# Altium integrated library TI Logic Flip-Flop.IntLib: 904 symbols (part 15 of 21)
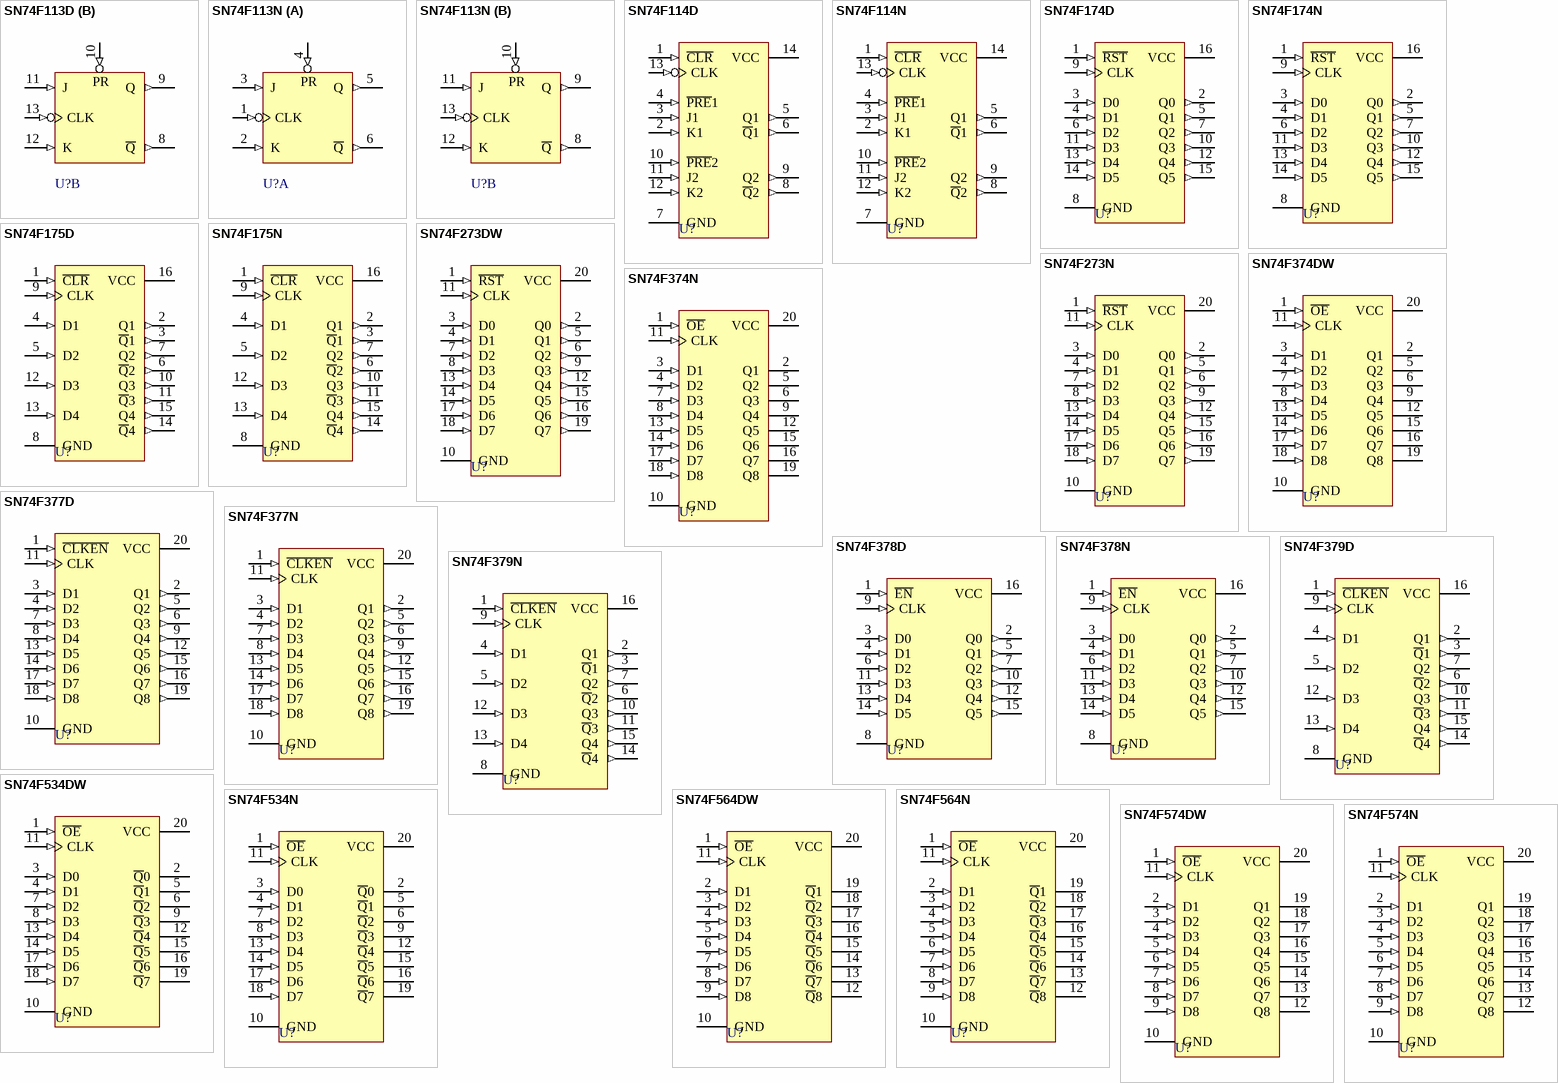
[diagram p49: symbols SN74F113D to SN74F574N]

## SN74F114D
designator U?
Dual J-K Negative-Edge-Triggered Flip-Flop with Preset, Common Clear and Common Clock; Published: 8-Jun-2000; LatestRevisionDate: 13-Apr-2006; LatestRevisionNote: IPC-7351 Footprint Added.; DatasheetVersion: Jan-1989; PackageVersion: Jan-1998; PackageReference: D014; Publisher: Altium Limited; PackageDescription: 14-Pin Small Outline Integrated Circuit 1.27 mm Pitch; Code_IPC: SOIC127P600-14; ComponentLink1Description: Manufacturer Link; ComponentLink1URL: http://www.ti.com/
footprint D014_N (SOIC, 14-Leads, Body 8.7x3.9mm, Pitch 1.27mm, IPC Medium Density)
footprint D014_L (SOIC, 14-Leads, Body 8.7x3.9mm, Pitch 1.27mm, IPC High Density)
footprint D014_M (SOIC, 14-Leads, Body 8.7x3.9mm, Pitch 1.27mm, IPC Low Density)
3D model D014 (14-Pin Small Outline Integrated Circuit 1.27 mm Pitch)
signal-integrity model SN74F114D
pins: 1 ~{CLR} (in), 2 K1 (in), 3 J1 (in), 4 ~{PRE}1 (in), 5 Q1 (out), 6 ~{Q}1 (out), 7 GND (power), 8 ~{Q}2 (out), 9 Q2 (out), 10 ~{PRE}2 (in), 11 J2 (in), 12 K2 (in), 13 CLK (in), 14 VCC (power)

## SN74F114N
designator U?
Dual J-K Negative-Edge-Triggered Flip-Flop with Preset, Common Clear and Common Clock; Published: 8-Jun-2000; LatestRevisionDate: 04-Mar-2005; LatestRevisionNote: Stylized 3D Model Added.; DatasheetVersion: Jan-1989; PackageVersion: Oct-1995; PackageReference: N014D; Publisher: Altium Limited; PackageDescription: DIP; 14 Leads; Row Spacing 7.62 mm; Pitch 2.54 mm; ComponentLink1Description: Manufacturer Link; ComponentLink1URL: http://www.ti.com/
footprint N014D (DIP; 14 Leads; Row Spacing 7.62 mm; Pitch 2.54 mm)
3D model N014 (DIP; 14 Leads; Row Spacing 7.62 mm; Pitch 2.54 mm)
signal-integrity model SN74F114N
pins: 1 ~{CLR} (in), 2 K1 (in), 3 J1 (in), 4 ~{PRE}1 (in), 5 Q1 (out), 6 ~{Q}1 (out), 7 GND (power), 8 ~{Q}2 (out), 9 Q2 (out), 10 ~{PRE}2 (in), 11 J2 (in), 12 K2 (in), 13 CLK (in), 14 VCC (power)

## SN74F174D
designator U?
Hex D-Type Flip-Flop with Clear; Published: 8-Jun-2000; LatestRevisionDate: 13-Apr-2006; LatestRevisionNote: IPC-7351 Footprint Added.; DatasheetVersion: Jan-1989; PackageVersion: Jan-1998; PackageReference: D016; Publisher: Altium Limited; PackageDescription: 16-Pin Small Outline Integrated Circuit 1.27 mm Pitch; Code_IPC: SOIC127P600-16; ComponentLink1Description: Manufacturer Link; ComponentLink1URL: http://www.ti.com/
footprint D016_N (SOIC, 16-Leads, Body 9.9x3.9mm, Pitch 1.27mm, IPC Medium Density)
footprint D016_L (SOIC, 16-Leads, Body 9.9x3.9mm, Pitch 1.27mm, IPC High Density)
footprint D016_M (SOIC, 16-Leads, Body 9.9x3.9mm, Pitch 1.27mm, IPC Low Density)
3D model D016 (16-Pin Small Outline Integrated Circuit 1.27 mm Pitch)
simulation model SN74F174 (SIMCODE)
signal-integrity model SN74F174D
pins: 1 ~{RST} (in), 2 Q0 (out), 3 D0 (in), 4 D1 (in), 5 Q1 (out), 6 D2 (in), 7 Q2 (out), 8 GND (power), 9 CLK (in), 10 Q3 (out), 11 D3 (in), 12 Q4 (out), 13 D4 (in), 14 D5 (in), 15 Q5 (out), 16 VCC (power)

## SN74F174N
designator U?
Hex D-Type Flip-Flop with Clear; Published: 8-Jun-2000; LatestRevisionDate: 04-Mar-2005; LatestRevisionNote: Stylized 3D Model Added.; DatasheetVersion: Jan-1989; PackageVersion: Oct-1995; PackageReference: N016D; Publisher: Altium Limited; PackageDescription: DIP; 16 Leads; Row Spacing 7.62 mm; Pitch 2.54 mm; Code_JEDEC: MS-001-BB; ComponentLink1Description: Manufacturer Link; ComponentLink1URL: http://www.ti.com/
footprint N016D (DIP; 16 Leads; Row Spacing 7.62 mm; Pitch 2.54 mm)
3D model N016 (DIP; 16 Leads; Row Spacing 7.62 mm; Pitch 2.54 mm)
simulation model SN74F174 (SIMCODE)
signal-integrity model SN74F174N
pins: 1 ~{RST} (in), 2 Q0 (out), 3 D0 (in), 4 D1 (in), 5 Q1 (out), 6 D2 (in), 7 Q2 (out), 8 GND (power), 9 CLK (in), 10 Q3 (out), 11 D3 (in), 12 Q4 (out), 13 D4 (in), 14 D5 (in), 15 Q5 (out), 16 VCC (power)

## SN74F175D
designator U?
Quadruple D-Type Flip-Flop with Clear; Published: 8-Jun-2000; LatestRevisionDate: 13-Apr-2006; LatestRevisionNote: IPC-7351 Footprint Added.; DatasheetVersion: Oct-1993; PackageVersion: Jan-1998; PackageReference: D016; Publisher: Altium Limited; PackageDescription: 16-Pin Small Outline Integrated Circuit 1.27 mm Pitch; Code_IPC: SOIC127P600-16; ComponentLink1Description: Manufacturer Link; ComponentLink1URL: http://www.ti.com/; ComponentLink2Description: Datasheet; ComponentLink2URL: http://www-s.ti.com/sc/ds/sn74f175.pdf
footprint D016_N (SOIC, 16-Leads, Body 9.9x3.9mm, Pitch 1.27mm, IPC Medium Density)
footprint D016_L (SOIC, 16-Leads, Body 9.9x3.9mm, Pitch 1.27mm, IPC High Density)
footprint D016_M (SOIC, 16-Leads, Body 9.9x3.9mm, Pitch 1.27mm, IPC Low Density)
3D model D016 (16-Pin Small Outline Integrated Circuit 1.27 mm Pitch)
simulation model SN74F175 (SIMCODE)
signal-integrity model SN74F175D
pins: 1 ~{CLR} (in), 2 Q1 (out), 3 ~{Q}1 (out), 4 D1 (in), 5 D2 (in), 6 ~{Q}2 (out), 7 Q2 (out), 8 GND (power), 9 CLK (in), 10 Q3 (out), 11 ~{Q}3 (out), 12 D3 (in), 13 D4 (in), 14 ~{Q}4 (out), 15 Q4 (out), 16 VCC (power)

## SN74F175N
designator U?
Quadruple D-Type Flip-Flop with Clear; Published: 8-Jun-2000; LatestRevisionDate: 04-Mar-2005; LatestRevisionNote: Stylized 3D Model Added.; DatasheetVersion: Oct-1993; PackageVersion: Oct-1995; PackageReference: N016; Publisher: Altium Limited; PackageDescription: DIP; 16 Leads; Row Spacing 7.62 mm; Pitch 2.54 mm; Code_JEDEC: MS-001-BB; ComponentLink1Description: Manufacturer Link; ComponentLink1URL: http://www.ti.com/; ComponentLink2Description: Datasheet; ComponentLink2URL: http://www-s.ti.com/sc/ds/sn74f175.pdf
footprint N016 (DIP; 16 Leads; Row Spacing 7.62 mm; Pitch 2.54 mm)
3D model N016 (DIP; 16 Leads; Row Spacing 7.62 mm; Pitch 2.54 mm)
simulation model SN74F175 (SIMCODE)
signal-integrity model SN74F175N
pins: 1 ~{CLR} (in), 2 Q1 (out), 3 ~{Q}1 (out), 4 D1 (in), 5 D2 (in), 6 ~{Q}2 (out), 7 Q2 (out), 8 GND (power), 9 CLK (in), 10 Q3 (out), 11 ~{Q}3 (out), 12 D3 (in), 13 D4 (in), 14 ~{Q}4 (out), 15 Q4 (out), 16 VCC (power)

## SN74F273DW
designator U?
Octal D-Type Flip-Flop with Clear; Published: 8-Jun-2000; LatestRevisionDate: 13-Apr-2006; LatestRevisionNote: IPC-7351 Footprint Added.; DatasheetVersion: Jan-1989; PackageVersion: Mar-2000; PackageReference: DW020; Publisher: Altium Limited; PackageDescription: 20-Pin Plastic Small Outline Integrated Circuit 1.27 mm Pitch; Code_JEDEC: MS-013; Code_IPC: SOIC127P1030-20; ComponentLink1Description: Manufacturer Link; ComponentLink1URL: http://www.ti.com/
footprint DW020_N (SOIC, 20-Leads, Body 12.8x7.5mm, Pitch 1.27mm, IPC Medium Density)
footprint DW020_L (SOIC, 20-Leads, Body 12.8x7.5mm, Pitch 1.27mm, IPC High Density)
footprint DW020_M (SOIC, 20-Leads, Body 12.8x7.5mm, Pitch 1.27mm, IPC Low Density)
3D model DW020 (20-Pin Plastic Small Outline Integrated Circuit 1.27 mm Pitch)
simulation model SN74F273 (SIMCODE)
signal-integrity model SN74F273DW
pins: 1 ~{RST} (in), 2 Q0 (out), 3 D0 (in), 4 D1 (in), 5 Q1 (out), 6 Q2 (out), 7 D2 (in), 8 D3 (in), 9 Q3 (out), 10 GND (power), 11 CLK (in), 12 Q4 (out), 13 D4 (in), 14 D5 (in), 15 Q5 (out), 16 Q6 (out), 17 D6 (in), 18 D7 (in), 19 Q7 (out), 20 VCC (power)

## SN74F273N
designator U?
Octal D-Type Flip-Flop with Clear; Published: 8-Jun-2000; LatestRevisionDate: 04-Mar-2005; LatestRevisionNote: Stylized 3D Model Added.; DatasheetVersion: Jan-1989; PackageVersion: Oct-1995; PackageReference: N020D; Publisher: Altium Limited; PackageDescription: DIP; 20 Leads; Row Spacing 7.62 mm; Pitch 2.54 mm; ComponentLink1Description: Manufacturer Link; ComponentLink1URL: http://www.ti.com/
footprint N020D (DIP; 20 Leads; Row Spacing 7.62 mm; Pitch 2.54 mm)
3D model J020 (DIP; 20 Leads; Row Spacing 7.62 mm; Pitch 2.54 mm)
simulation model SN74F273 (SIMCODE)
signal-integrity model SN74F273N
pins: 1 ~{RST} (in), 2 Q0 (out), 3 D0 (in), 4 D1 (in), 5 Q1 (out), 6 Q2 (out), 7 D2 (in), 8 D3 (in), 9 Q3 (out), 10 GND (power), 11 CLK (in), 12 Q4 (out), 13 D4 (in), 14 D5 (in), 15 Q5 (out), 16 Q6 (out), 17 D6 (in), 18 D7 (in), 19 Q7 (out), 20 VCC (power)

## SN74F374DW
designator U?
Octal Edge-Triggered D-Type D-Type Flip-Flop with 3-State Outputs; Published: 8-Jun-2000; LatestRevisionDate: 13-Apr-2006; LatestRevisionNote: IPC-7351 Footprint Added.; DatasheetVersion: Oct-1993; PackageVersion: Mar-2000; PackageReference: DW020; Publisher: Altium Limited; PackageDescription: 20-Pin Plastic Small Outline Integrated Circuit 1.27 mm Pitch; Code_JEDEC: MS-013; Code_IPC: SOIC127P1030-20; ComponentLink1Description: Manufacturer Link; ComponentLink1URL: http://www.ti.com/; ComponentLink2Description: Datasheet; ComponentLink2URL: http://www-s.ti.com/sc/ds/sn74f374.pdf
footprint DW020_N (SOIC, 20-Leads, Body 12.8x7.5mm, Pitch 1.27mm, IPC Medium Density)
footprint DW020_L (SOIC, 20-Leads, Body 12.8x7.5mm, Pitch 1.27mm, IPC High Density)
footprint DW020_M (SOIC, 20-Leads, Body 12.8x7.5mm, Pitch 1.27mm, IPC Low Density)
3D model DW020 (20-Pin Plastic Small Outline Integrated Circuit 1.27 mm Pitch)
simulation model SN74F374 (SIMCODE)
signal-integrity model SN74F374DW
pins: 1 ~{OE} (in), 2 Q1 (hiz), 3 D1 (in), 4 D2 (in), 5 Q2 (hiz), 6 Q3 (hiz), 7 D3 (in), 8 D4 (in), 9 Q4 (hiz), 10 GND (power), 11 CLK (in), 12 Q5 (hiz), 13 D5 (in), 14 D6 (in), 15 Q6 (hiz), 16 Q7 (hiz), 17 D7 (in), 18 D8 (in), 19 Q8 (hiz), 20 VCC (power)

## SN74F374N
designator U?
Octal Edge-Triggered D-Type D-Type Flip-Flop with 3-State Outputs; Published: 8-Jun-2000; LatestRevisionDate: 04-Mar-2005; LatestRevisionNote: Stylized 3D Model Added.; DatasheetVersion: Oct-1993; PackageVersion: Oct-1995; PackageReference: N020; Publisher: Altium Limited; PackageDescription: DIP; 20 Leads; Row Spacing 7.62 mm; Pitch 2.54 mm; ComponentLink1Description: Manufacturer Link; ComponentLink1URL: http://www.ti.com/; ComponentLink2Description: Datasheet; ComponentLink2URL: http://www-s.ti.com/sc/ds/sn74f374.pdf
footprint N020 (DIP; 20 Leads; Row Spacing 7.62 mm; Pitch 2.54 mm)
3D model J020 (DIP; 20 Leads; Row Spacing 7.62 mm; Pitch 2.54 mm)
simulation model SN74F374 (SIMCODE)
signal-integrity model SN74F374N
pins: 1 ~{OE} (in), 2 Q1 (hiz), 3 D1 (in), 4 D2 (in), 5 Q2 (hiz), 6 Q3 (hiz), 7 D3 (in), 8 D4 (in), 9 Q4 (hiz), 10 GND (power), 11 CLK (in), 12 Q5 (hiz), 13 D5 (in), 14 D6 (in), 15 Q6 (hiz), 16 Q7 (hiz), 17 D7 (in), 18 D8 (in), 19 Q8 (hiz), 20 VCC (power)

## SN74F377D
designator U?
Octal D-Type Flip-Flop with Clock Enable; Published: 8-Jun-2000; LatestRevisionDate: 13-Apr-2006; LatestRevisionNote: IPC-7351 Footprint Added.; DatasheetVersion: Jan-1989; PackageVersion: Mar-2000; PackageReference: DW020; Publisher: Altium Limited; PackageDescription: 20-Pin Plastic Small Outline Integrated Circuit 1.27 mm Pitch; Code_JEDEC: MS-013; Code_IPC: SOIC127P1030-20; ComponentLink1Description: Manufacturer Link; ComponentLink1URL: http://www.ti.com/
footprint DW020_N (SOIC, 20-Leads, Body 12.8x7.5mm, Pitch 1.27mm, IPC Medium Density)
footprint DW020_L (SOIC, 20-Leads, Body 12.8x7.5mm, Pitch 1.27mm, IPC High Density)
footprint DW020_M (SOIC, 20-Leads, Body 12.8x7.5mm, Pitch 1.27mm, IPC Low Density)
3D model DW020 (20-Pin Plastic Small Outline Integrated Circuit 1.27 mm Pitch)
simulation model SN74F377 (SIMCODE)
signal-integrity model SN74F377D
pins: 1 ~{CLKEN} (in), 2 Q1 (out), 3 D1 (in), 4 D2 (in), 5 Q2 (out), 6 Q3 (out), 7 D3 (in), 8 D4 (in), 9 Q4 (out), 10 GND (power), 11 CLK (in), 12 Q5 (out), 13 D5 (in), 14 D6 (in), 15 Q6 (out), 16 Q7 (out), 17 D7 (in), 18 D8 (in), 19 Q8 (out), 20 VCC (power)

## SN74F377N
designator U?
Octal D-Type Flip-Flop with Clock Enable; Published: 8-Jun-2000; LatestRevisionDate: 04-Mar-2005; LatestRevisionNote: Stylized 3D Model Added.; DatasheetVersion: Jan-1989; PackageVersion: Oct-1995; PackageReference: N020D; Publisher: Altium Limited; PackageDescription: DIP; 20 Leads; Row Spacing 7.62 mm; Pitch 2.54 mm; ComponentLink1Description: Manufacturer Link; ComponentLink1URL: http://www.ti.com/
footprint N020D (DIP; 20 Leads; Row Spacing 7.62 mm; Pitch 2.54 mm)
3D model J020 (DIP; 20 Leads; Row Spacing 7.62 mm; Pitch 2.54 mm)
simulation model SN74F377 (SIMCODE)
signal-integrity model SN74F377N
pins: 1 ~{CLKEN} (in), 2 Q1 (out), 3 D1 (in), 4 D2 (in), 5 Q2 (out), 6 Q3 (out), 7 D3 (in), 8 D4 (in), 9 Q4 (out), 10 GND (power), 11 CLK (in), 12 Q5 (out), 13 D5 (in), 14 D6 (in), 15 Q6 (out), 16 Q7 (out), 17 D7 (in), 18 D8 (in), 19 Q8 (out), 20 VCC (power)

## SN74F378D
designator U?
Hex D-Type Flip-Flop with Clock Enable; ComponentAvailability: Obsolete; Published: 8-Jun-2000; LatestRevisionDate: 13-Apr-2006; LatestRevisionNote: IPC-7351 Footprint Added.; DatasheetVersion: Oct-1993; PackageVersion: Jan-1998; PackageReference: D016; Publisher: Altium Limited; PackageDescription: 16-Pin Small Outline Integrated Circuit 1.27 mm Pitch; Code_IPC: SOIC127P600-16; ComponentLink1Description: Manufacturer Link; ComponentLink1URL: http://www.ti.com/; ComponentLink2Description: Datasheet; ComponentLink2URL: http://www-s.ti.com/sc/ds/sn74f378.pdf
footprint D016_N (SOIC, 16-Leads, Body 9.9x3.9mm, Pitch 1.27mm, IPC Medium Density)
footprint D016_L (SOIC, 16-Leads, Body 9.9x3.9mm, Pitch 1.27mm, IPC High Density)
footprint D016_M (SOIC, 16-Leads, Body 9.9x3.9mm, Pitch 1.27mm, IPC Low Density)
3D model D016 (16-Pin Small Outline Integrated Circuit 1.27 mm Pitch)
simulation model SN74F378 (SIMCODE)
signal-integrity model SN74F378D
pins: 1 ~{EN} (in), 2 Q0 (out), 3 D0 (in), 4 D1 (in), 5 Q1 (out), 6 D2 (in), 7 Q2 (out), 8 GND (power), 9 CLK (in), 10 Q3 (out), 11 D3 (in), 12 Q4 (out), 13 D4 (in), 14 D5 (in), 15 Q5 (out), 16 VCC (power)

## SN74F378N
designator U?
Hex D-Type Flip-Flop with Clock Enable; ComponentAvailability: Obsolete; Published: 8-Jun-2000; LatestRevisionDate: 04-Mar-2005; LatestRevisionNote: Stylized 3D Model Added.; DatasheetVersion: Oct-1993; PackageVersion: Oct-1995; PackageReference: N016; Publisher: Altium Limited; PackageDescription: DIP; 16 Leads; Row Spacing 7.62 mm; Pitch 2.54 mm; Code_JEDEC: MS-001-BB; ComponentLink1Description: Manufacturer Link; ComponentLink1URL: http://www.ti.com/; ComponentLink2Description: Datasheet; ComponentLink2URL: http://www-s.ti.com/sc/ds/sn74f378.pdf
footprint N016 (DIP; 16 Leads; Row Spacing 7.62 mm; Pitch 2.54 mm)
3D model N016 (DIP; 16 Leads; Row Spacing 7.62 mm; Pitch 2.54 mm)
simulation model SN74F378 (SIMCODE)
signal-integrity model SN74F378N
pins: 1 ~{EN} (in), 2 Q0 (out), 3 D0 (in), 4 D1 (in), 5 Q1 (out), 6 D2 (in), 7 Q2 (out), 8 GND (power), 9 CLK (in), 10 Q3 (out), 11 D3 (in), 12 Q4 (out), 13 D4 (in), 14 D5 (in), 15 Q5 (out), 16 VCC (power)

## SN74F379D
designator U?
Quadruple D-Type Flip-Flop with Clock Enable; Published: 8-Jun-2000; LatestRevisionDate: 13-Apr-2006; LatestRevisionNote: IPC-7351 Footprint Added.; DatasheetVersion: Jan-1989; PackageVersion: Jan-1998; PackageReference: D016; Publisher: Altium Limited; PackageDescription: 16-Pin Small Outline Integrated Circuit 1.27 mm Pitch; Code_IPC: SOIC127P600-16; ComponentLink1Description: Manufacturer Link; ComponentLink1URL: http://www.ti.com/
footprint D016_N (SOIC, 16-Leads, Body 9.9x3.9mm, Pitch 1.27mm, IPC Medium Density)
footprint D016_L (SOIC, 16-Leads, Body 9.9x3.9mm, Pitch 1.27mm, IPC High Density)
footprint D016_M (SOIC, 16-Leads, Body 9.9x3.9mm, Pitch 1.27mm, IPC Low Density)
3D model D016 (16-Pin Small Outline Integrated Circuit 1.27 mm Pitch)
signal-integrity model SN74F379D
pins: 1 ~{CLKEN} (in), 2 Q1 (out), 3 ~{Q}1 (out), 4 D1 (in), 5 D2 (in), 6 ~{Q}2 (out), 7 Q2 (out), 8 GND (power), 9 CLK (in), 10 Q3 (out), 11 ~{Q}3 (out), 12 D3 (in), 13 D4 (in), 14 ~{Q}4 (out), 15 Q4 (out), 16 VCC (power)

## SN74F379N
designator U?
Quadruple D-Type Flip-Flop with Clock Enable; Published: 8-Jun-2000; LatestRevisionDate: 04-Mar-2005; LatestRevisionNote: Stylized 3D Model Added.; DatasheetVersion: Jan-1989; PackageVersion: Oct-1995; PackageReference: N016D; Publisher: Altium Limited; PackageDescription: DIP; 16 Leads; Row Spacing 7.62 mm; Pitch 2.54 mm; Code_JEDEC: MS-001-BB; ComponentLink1Description: Manufacturer Link; ComponentLink1URL: http://www.ti.com/
footprint N016D (DIP; 16 Leads; Row Spacing 7.62 mm; Pitch 2.54 mm)
3D model N016 (DIP; 16 Leads; Row Spacing 7.62 mm; Pitch 2.54 mm)
signal-integrity model SN74F379N
pins: 1 ~{CLKEN} (in), 2 Q1 (out), 3 ~{Q}1 (out), 4 D1 (in), 5 D2 (in), 6 ~{Q}2 (out), 7 Q2 (out), 8 GND (power), 9 CLK (in), 10 Q3 (out), 11 ~{Q}3 (out), 12 D3 (in), 13 D4 (in), 14 ~{Q}4 (out), 15 Q4 (out), 16 VCC (power)

## SN74F534DW
designator U?
Octal D-Type Edge-Triggered Flip-Flop with 3-State Outputs; Published: 8-Jun-2000; LatestRevisionDate: 13-Apr-2006; LatestRevisionNote: IPC-7351 Footprint Added.; DatasheetVersion: Jan-1989; PackageVersion: Mar-2000; PackageReference: DW020; Publisher: Altium Limited; PackageDescription: 20-Pin Plastic Small Outline Integrated Circuit 1.27 mm Pitch; Code_JEDEC: MS-013; Code_IPC: SOIC127P1030-20; ComponentLink1Description: Manufacturer Link; ComponentLink1URL: http://www.ti.com/
footprint DW020_N (SOIC, 20-Leads, Body 12.8x7.5mm, Pitch 1.27mm, IPC Medium Density)
footprint DW020_L (SOIC, 20-Leads, Body 12.8x7.5mm, Pitch 1.27mm, IPC High Density)
footprint DW020_M (SOIC, 20-Leads, Body 12.8x7.5mm, Pitch 1.27mm, IPC Low Density)
3D model DW020 (20-Pin Plastic Small Outline Integrated Circuit 1.27 mm Pitch)
signal-integrity model SN74F534DW
pins: 1 ~{OE} (in), 2 ~{Q}0 (hiz), 3 D0 (in), 4 D1 (in), 5 ~{Q}1 (hiz), 6 ~{Q}2 (hiz), 7 D2 (in), 8 D3 (in), 9 ~{Q}3 (hiz), 10 GND (power), 11 CLK (in), 12 ~{Q}4 (hiz), 13 D4 (in), 14 D5 (in), 15 ~{Q}5 (hiz), 16 ~{Q}6 (hiz), 17 D6 (in), 18 D7 (in), 19 ~{Q}7 (hiz), 20 VCC (power)

## SN74F534N
designator U?
Octal D-Type Edge-Triggered Flip-Flop with 3-State Outputs; Published: 8-Jun-2000; LatestRevisionDate: 04-Mar-2005; LatestRevisionNote: Stylized 3D Model Added.; DatasheetVersion: Jan-1989; PackageVersion: Oct-1995; PackageReference: N020D; Publisher: Altium Limited; PackageDescription: DIP; 20 Leads; Row Spacing 7.62 mm; Pitch 2.54 mm; ComponentLink1Description: Manufacturer Link; ComponentLink1URL: http://www.ti.com/
footprint N020D (DIP; 20 Leads; Row Spacing 7.62 mm; Pitch 2.54 mm)
3D model J020 (DIP; 20 Leads; Row Spacing 7.62 mm; Pitch 2.54 mm)
signal-integrity model SN74F534N
pins: 1 ~{OE} (in), 2 ~{Q}0 (hiz), 3 D0 (in), 4 D1 (in), 5 ~{Q}1 (hiz), 6 ~{Q}2 (hiz), 7 D2 (in), 8 D3 (in), 9 ~{Q}3 (hiz), 10 GND (power), 11 CLK (in), 12 ~{Q}4 (hiz), 13 D4 (in), 14 D5 (in), 15 ~{Q}5 (hiz), 16 ~{Q}6 (hiz), 17 D6 (in), 18 D7 (in), 19 ~{Q}7 (hiz), 20 VCC (power)

## SN74F564DW
designator U?
Octal D-Type Edge-Triggered Flip-Flop with 3-State Outputs; Published: 8-Jun-2000; LatestRevisionDate: 13-Apr-2006; LatestRevisionNote: IPC-7351 Footprint Added.; DatasheetVersion: Jan-1989; PackageVersion: Mar-2000; PackageReference: DW020; Publisher: Altium Limited; PackageDescription: 20-Pin Plastic Small Outline Integrated Circuit 1.27 mm Pitch; Code_JEDEC: MS-013; Code_IPC: SOIC127P1030-20; ComponentLink1Description: Manufacturer Link; ComponentLink1URL: http://www.ti.com/
footprint DW020_N (SOIC, 20-Leads, Body 12.8x7.5mm, Pitch 1.27mm, IPC Medium Density)
footprint DW020_L (SOIC, 20-Leads, Body 12.8x7.5mm, Pitch 1.27mm, IPC High Density)
footprint DW020_M (SOIC, 20-Leads, Body 12.8x7.5mm, Pitch 1.27mm, IPC Low Density)
3D model DW020 (20-Pin Plastic Small Outline Integrated Circuit 1.27 mm Pitch)
signal-integrity model SN74F564DW
pins: 1 ~{OE} (in), 2 D1 (in), 3 D2 (in), 4 D3 (in), 5 D4 (in), 6 D5 (in), 7 D6 (in), 8 D7 (in), 9 D8 (in), 10 GND (power), 11 CLK (in), 12 ~{Q}8 (hiz), 13 ~{Q}7 (hiz), 14 ~{Q}6 (hiz), 15 ~{Q}5 (hiz), 16 ~{Q}4 (hiz), 17 ~{Q}3 (hiz), 18 ~{Q}2 (hiz), 19 ~{Q}1 (hiz), 20 VCC (power)

## SN74F564N
designator U?
Octal D-Type Edge-Triggered Flip-Flop with 3-State Outputs; Published: 8-Jun-2000; LatestRevisionDate: 04-Mar-2005; LatestRevisionNote: Stylized 3D Model Added.; DatasheetVersion: Jan-1989; PackageVersion: Oct-1995; PackageReference: N020D; Publisher: Altium Limited; PackageDescription: DIP; 20 Leads; Row Spacing 7.62 mm; Pitch 2.54 mm; ComponentLink1Description: Manufacturer Link; ComponentLink1URL: http://www.ti.com/
footprint N020D (DIP; 20 Leads; Row Spacing 7.62 mm; Pitch 2.54 mm)
3D model J020 (DIP; 20 Leads; Row Spacing 7.62 mm; Pitch 2.54 mm)
signal-integrity model SN74F564N
pins: 1 ~{OE} (in), 2 D1 (in), 3 D2 (in), 4 D3 (in), 5 D4 (in), 6 D5 (in), 7 D6 (in), 8 D7 (in), 9 D8 (in), 10 GND (power), 11 CLK (in), 12 ~{Q}8 (hiz), 13 ~{Q}7 (hiz), 14 ~{Q}6 (hiz), 15 ~{Q}5 (hiz), 16 ~{Q}4 (hiz), 17 ~{Q}3 (hiz), 18 ~{Q}2 (hiz), 19 ~{Q}1 (hiz), 20 VCC (power)

## SN74F574DW
designator U?
Octal Edge-Triggered D-Type Flip-Flop with 3-State Outputs; Published: 8-Jun-2000; LatestRevisionDate: 13-Apr-2006; LatestRevisionNote: IPC-7351 Footprint Added.; DatasheetVersion: Oct-1993; PackageVersion: Mar-2000; PackageReference: DW020; Publisher: Altium Limited; PackageDescription: 20-Pin Plastic Small Outline Integrated Circuit 1.27 mm Pitch; Code_JEDEC: MS-013; Code_IPC: SOIC127P1030-20; ComponentLink1Description: Manufacturer Link; ComponentLink1URL: http://www.ti.com/; ComponentLink2Description: Datasheet; ComponentLink2URL: http://www-s.ti.com/sc/ds/sn74f574.pdf
footprint DW020_N (SOIC, 20-Leads, Body 12.8x7.5mm, Pitch 1.27mm, IPC Medium Density)
footprint DW020_L (SOIC, 20-Leads, Body 12.8x7.5mm, Pitch 1.27mm, IPC High Density)
footprint DW020_M (SOIC, 20-Leads, Body 12.8x7.5mm, Pitch 1.27mm, IPC Low Density)
3D model DW020 (20-Pin Plastic Small Outline Integrated Circuit 1.27 mm Pitch)
signal-integrity model SN74F574DW
pins: 1 ~{OE} (in), 2 D1 (in), 3 D2 (in), 4 D3 (in), 5 D4 (in), 6 D5 (in), 7 D6 (in), 8 D7 (in), 9 D8 (in), 10 GND (power), 11 CLK (in), 12 Q8 (hiz), 13 Q7 (hiz), 14 Q6 (hiz), 15 Q5 (hiz), 16 Q4 (hiz), 17 Q3 (hiz), 18 Q2 (hiz), 19 Q1 (hiz), 20 VCC (power)

## SN74F574N
designator U?
Octal Edge-Triggered D-Type Flip-Flop with 3-State Outputs; Published: 8-Jun-2000; LatestRevisionDate: 04-Mar-2005; LatestRevisionNote: Stylized 3D Model Added.; DatasheetVersion: Oct-1993; PackageVersion: Oct-1995; PackageReference: N020; Publisher: Altium Limited; PackageDescription: DIP; 20 Leads; Row Spacing 7.62 mm; Pitch 2.54 mm; ComponentLink1Description: Manufacturer Link; ComponentLink1URL: http://www.ti.com/; ComponentLink2Description: Datasheet; ComponentLink2URL: http://www-s.ti.com/sc/ds/sn74f574.pdf
footprint N020 (DIP; 20 Leads; Row Spacing 7.62 mm; Pitch 2.54 mm)
3D model J020 (DIP; 20 Leads; Row Spacing 7.62 mm; Pitch 2.54 mm)
signal-integrity model SN74F574N
pins: 1 ~{OE} (in), 2 D1 (in), 3 D2 (in), 4 D3 (in), 5 D4 (in), 6 D5 (in), 7 D6 (in), 8 D7 (in), 9 D8 (in), 10 GND (power), 11 CLK (in), 12 Q8 (hiz), 13 Q7 (hiz), 14 Q6 (hiz), 15 Q5 (hiz), 16 Q4 (hiz), 17 Q3 (hiz), 18 Q2 (hiz), 19 Q1 (hiz), 20 VCC (power)

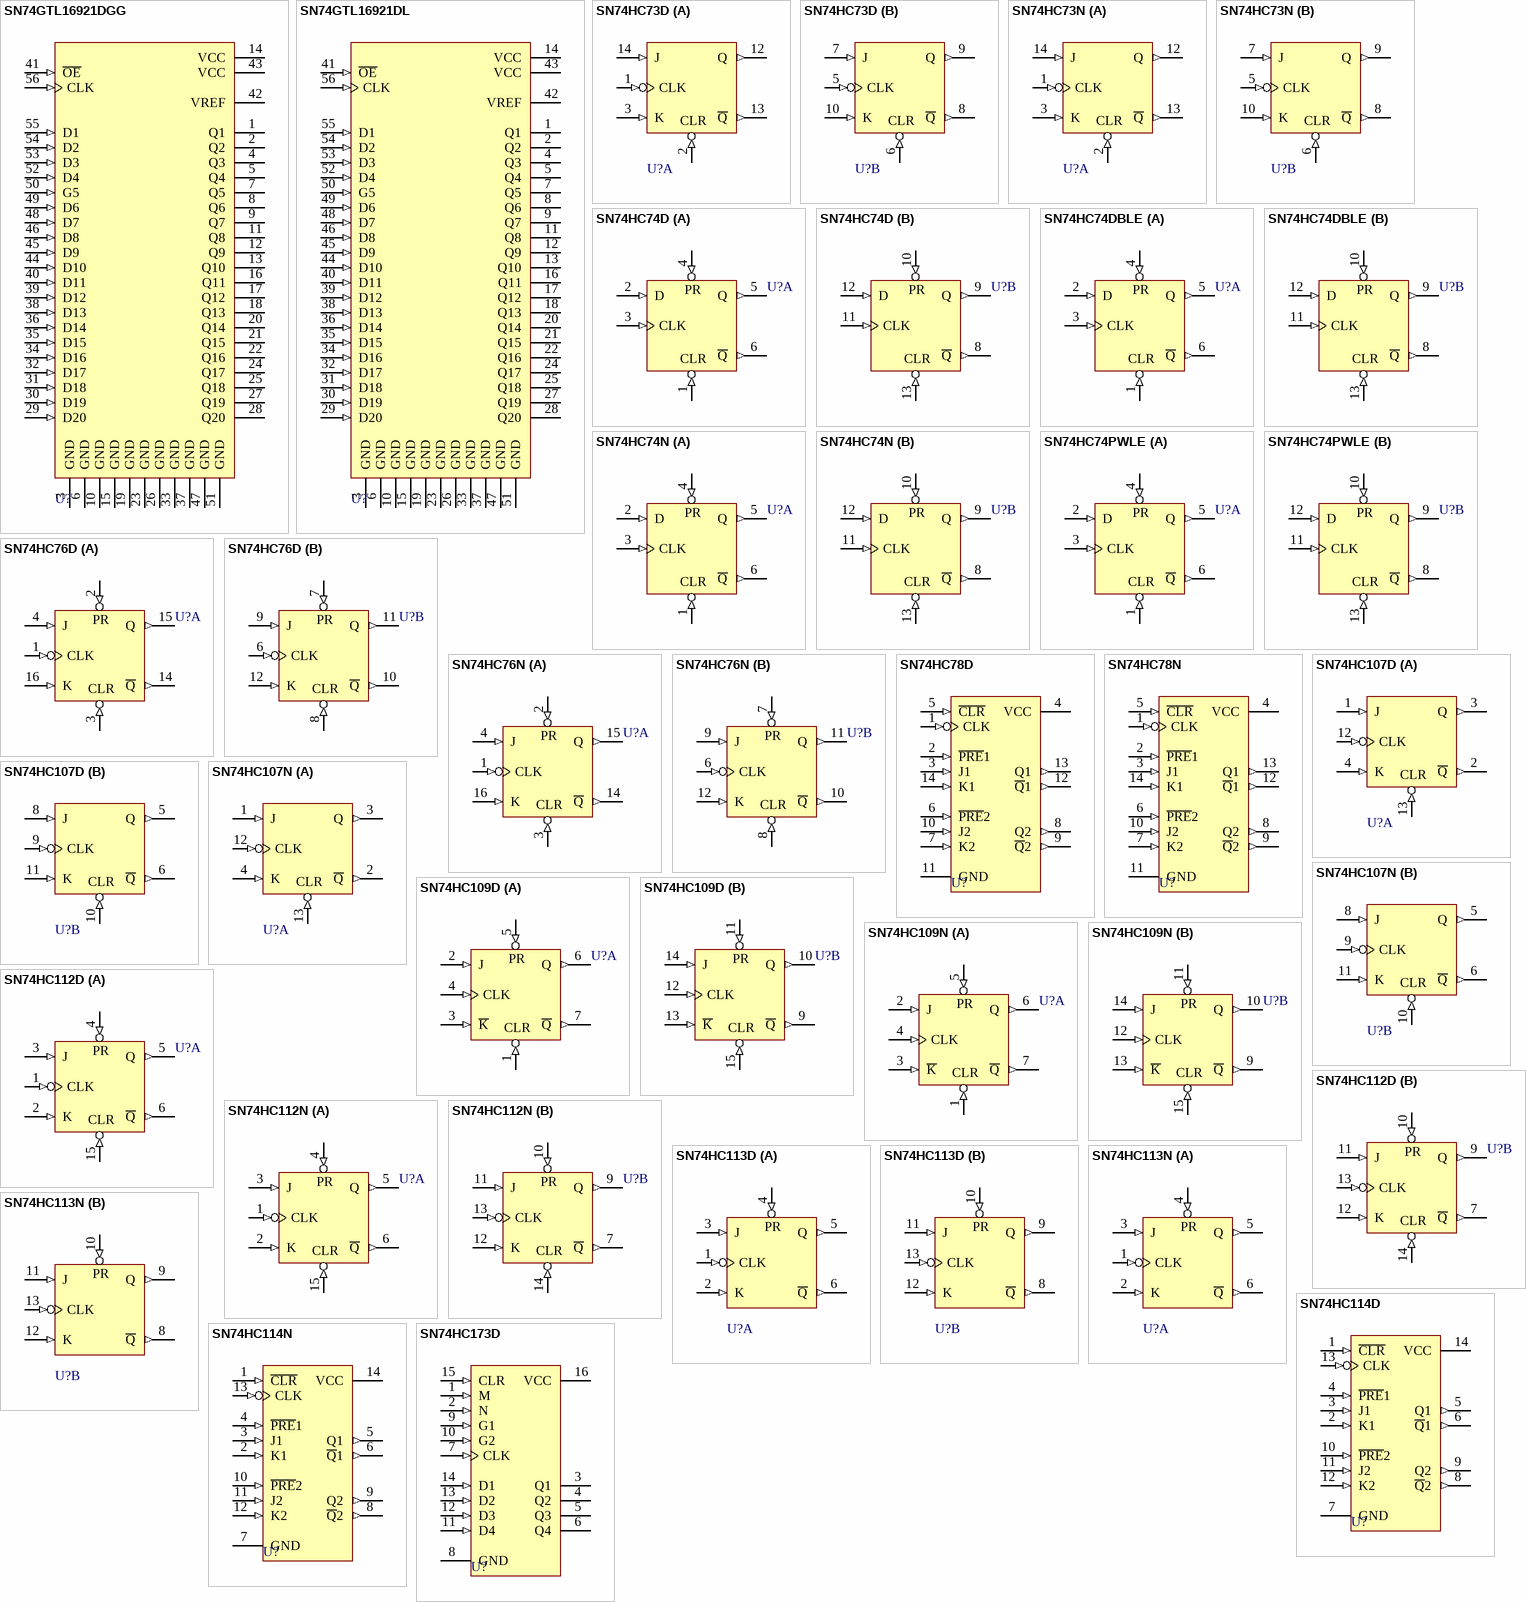
[diagram p25: symbols SN74GTL16921DGG to SN74HC173D]

## SN74GTL16921DGG
designator U?
20-Bit Flip-Flop with GTL I/O Levels; Published: 8-Jun-2000; LatestRevisionDate: 04-Mar-2005; LatestRevisionNote: Stylized 3D Model Added.; DatasheetVersion: Jul-1995; PackageVersion: Jan-1998; PackageReference: DGG056; Publisher: Altium Limited; PackageDescription: Shrink Small Outline; 56 Leads; Body Width 6.1 mm; Pitch 0.5 mm; ComponentLink1Description: Manufacturer Link; ComponentLink1URL: http://www.ti.com/
footprint DGG056 (Shrink Small Outline; 56 Leads; Body Width 6.1 mm; Pitch 0.5 mm)
3D model DGG056 (Shrink Small Outline; 56 Leads; Body Width 6.1 mm; Pitch 0.5 mm)
signal-integrity model SN74GTL16921DGG
pins: 1 Q1 (hiz), 2 Q2 (hiz), 3 GND (power), 4 Q3 (hiz), 5 Q4 (hiz), 6 GND (power), 7 Q5 (hiz), 8 Q6 (hiz), 9 Q7 (hiz), 10 GND (power), 11 Q8 (hiz), 12 Q9 (hiz), 13 Q10 (hiz), 14 VCC (power), 15 GND (power), 16 Q11 (hiz), 17 Q12 (hiz), 18 Q13 (hiz), 19 GND (power), 20 Q14 (hiz), 21 Q15 (hiz), 22 Q16 (hiz), 23 GND (power), 24 Q17 (hiz), 25 Q18 (hiz), 26 GND (power), 27 Q19 (hiz), 28 Q20 (hiz), 29 D20 (in), 30 D19 (in), 31 D18 (in), 32 D17 (in), 33 GND (power), 34 D16 (in), 35 D15 (in), 36 D14 (in), 37 GND (power), 38 D13 (in), 39 D12 (in), 40 D11 (in), 41 ~{OE} (in), 42 VREF (power), 43 VCC (power), 44 D10 (in), 45 D9 (in), 46 D8 (in), 47 GND (power), 48 D7 (in), 49 D6 (in), 50 G5 (in), 51 GND (power), 52 D4 (in), 53 D3 (in), 54 D2 (in), 55 D1 (in), 56 CLK (in)

## SN74GTL16921DL
designator U?
20-Bit Flip-Flop with GTL I/O Levels; Published: 8-Jun-2000; LatestRevisionDate: 04-Mar-2005; LatestRevisionNote: Stylized 3D Model Added.; DatasheetVersion: Jul-1995; PackageVersion: Dec-2001; PackageReference: DL056; Publisher: Altium Limited; PackageDescription: SSOP; 56 Leads; Body Width 7.5 mm; Pitch 0.635 mm; Code_JEDEC: MO-118-AB; Code_IPC: SSO56; ComponentLink1Description: Manufacturer Link; ComponentLink1URL: http://www.ti.com/
footprint DL056 (SSOP; 56 Leads; Body Width 7.5 mm; Pitch 0.635 mm)
3D model DL056 (SSOP; 56 Leads; Body Width 7.5 mm; Pitch 0.635 mm)
signal-integrity model SN74GTL16921DL
pins: 1 Q1 (hiz), 2 Q2 (hiz), 3 GND (power), 4 Q3 (hiz), 5 Q4 (hiz), 6 GND (power), 7 Q5 (hiz), 8 Q6 (hiz), 9 Q7 (hiz), 10 GND (power), 11 Q8 (hiz), 12 Q9 (hiz), 13 Q10 (hiz), 14 VCC (power), 15 GND (power), 16 Q11 (hiz), 17 Q12 (hiz), 18 Q13 (hiz), 19 GND (power), 20 Q14 (hiz), 21 Q15 (hiz), 22 Q16 (hiz), 23 GND (power), 24 Q17 (hiz), 25 Q18 (hiz), 26 GND (power), 27 Q19 (hiz), 28 Q20 (hiz), 29 D20 (in), 30 D19 (in), 31 D18 (in), 32 D17 (in), 33 GND (power), 34 D16 (in), 35 D15 (in), 36 D14 (in), 37 GND (power), 38 D13 (in), 39 D12 (in), 40 D11 (in), 41 ~{OE} (in), 42 VREF (power), 43 VCC (power), 44 D10 (in), 45 D9 (in), 46 D8 (in), 47 GND (power), 48 D7 (in), 49 D6 (in), 50 G5 (in), 51 GND (power), 52 D4 (in), 53 D3 (in), 54 D2 (in), 55 D1 (in), 56 CLK (in)

## SN74HC73D
designator U?
Dual J-K Flip-Flop with Clear; ComponentAvailability: Obsolete; Published: 8-Jun-2000; LatestRevisionDate: 13-Apr-2006; LatestRevisionNote: IPC-7351 Footprint Added.; DatasheetVersion: Sep-1987; PackageVersion: Jan-1998; PackageReference: D014; Publisher: Altium Limited; PackageDescription: 14-Pin Small Outline Integrated Circuit 1.27 mm Pitch; Code_IPC: SOIC127P600-14; ComponentLink1Description: Manufacturer Link; ComponentLink1URL: http://www.ti.com/; ComponentLink2Description: Discontinuation Notice; ComponentLink2URL: http://focus.ti.com/docs/prod/folders/print/sn74hc73.html
footprint D014_N (SOIC, 14-Leads, Body 8.7x3.9mm, Pitch 1.27mm, IPC Medium Density)
footprint D014_L (SOIC, 14-Leads, Body 8.7x3.9mm, Pitch 1.27mm, IPC High Density)
footprint D014_M (SOIC, 14-Leads, Body 8.7x3.9mm, Pitch 1.27mm, IPC Low Density)
3D model D014 (14-Pin Small Outline Integrated Circuit 1.27 mm Pitch)
signal-integrity model SN74HC73D
pins on every part: 4 VCC (power) hidden to VCC, 11 GND (power) hidden to GND
part A pins: 1 CLK (in), 2 CLR (in), 3 K (in), 12 Q (out), 13 ~{Q} (out), 14 J (in)
part B pins: 5 CLK (in), 6 CLR (in), 7 J (in), 8 ~{Q} (out), 9 Q (out), 10 K (in)

## SN74HC73N
designator U?
Dual J-K Flip-Flop with Clear; ComponentAvailability: Obsolete; Published: 8-Jun-2000; LatestRevisionDate: 04-Mar-2005; LatestRevisionNote: Stylized 3D Model Added.; DatasheetVersion: Sep-1987; PackageVersion: Oct-1995; PackageReference: N014D; Publisher: Altium Limited; PackageDescription: DIP; 14 Leads; Row Spacing 7.62 mm; Pitch 2.54 mm; ComponentLink1Description: Manufacturer Link; ComponentLink1URL: http://www.ti.com/; ComponentLink2Description: Discontinuation Notice; ComponentLink2URL: http://focus.ti.com/docs/prod/folders/print/sn74hc73.html
footprint N014D (DIP; 14 Leads; Row Spacing 7.62 mm; Pitch 2.54 mm)
3D model N014 (DIP; 14 Leads; Row Spacing 7.62 mm; Pitch 2.54 mm)
signal-integrity model SN74HC73N
pins on every part: 4 VCC (power) hidden to VCC, 11 GND (power) hidden to GND
part A pins: 1 CLK (in), 2 CLR (in), 3 K (in), 12 Q (out), 13 ~{Q} (out), 14 J (in)
part B pins: 5 CLK (in), 6 CLR (in), 7 J (in), 8 ~{Q} (out), 9 Q (out), 10 K (in)

## SN74HC74D
designator U?
Dual D-Type Positive-Edge-Triggered Flip-Flop with Clear and Preset; Published: 8-Jun-2000; LatestRevisionDate: 13-Apr-2006; LatestRevisionNote: IPC-7351 Footprint Added.; DatasheetVersion: May-1997; PackageVersion: Jan-1998; PackageReference: D014; Publisher: Altium Limited; PackageDescription: 14-Pin Small Outline Integrated Circuit 1.27 mm Pitch; Code_IPC: SOIC127P600-14; ComponentLink1Description: Manufacturer Link; ComponentLink1URL: http://www.ti.com/; ComponentLink2Description: Datasheet; ComponentLink2URL: http://www-s.ti.com/sc/ds/sn74hc74.pdf
footprint D014_N (SOIC, 14-Leads, Body 8.7x3.9mm, Pitch 1.27mm, IPC Medium Density)
footprint D014_L (SOIC, 14-Leads, Body 8.7x3.9mm, Pitch 1.27mm, IPC High Density)
footprint D014_M (SOIC, 14-Leads, Body 8.7x3.9mm, Pitch 1.27mm, IPC Low Density)
3D model D014 (14-Pin Small Outline Integrated Circuit 1.27 mm Pitch)
signal-integrity model SN74HC74D
pins on every part: 7 GND (power) hidden to GND, 14 VCC (power) hidden to VCC
part A pins: 1 CLR (in), 2 D (in), 3 CLK (in), 4 PR (in), 5 Q (out), 6 ~{Q} (out)
part B pins: 8 ~{Q} (out), 9 Q (out), 10 PR (in), 11 CLK (in), 12 D (in), 13 CLR (in)

## SN74HC74DBLE
designator U?
Dual D-Type Positive-Edge-Triggered Flip-Flop with Clear and Preset; ComponentAvailability: Obsolete; Published: 8-Jun-2000; LatestRevisionDate: 04-Mar-2005; LatestRevisionNote: Stylized 3D Model Added.; DatasheetVersion: May-1997; PackageVersion: May-1999; PackageReference: DB014; Publisher: Altium Limited; PackageDescription: SSOP, Plastic; 14 Leads; Body Width 5.3 mm; Pitch 0.65 mm; Code_JEDEC: MO-150-AB; ComponentLink1Description: Manufacturer Link; ComponentLink1URL: http://www.ti.com/; ComponentLink2Description: Datasheet; ComponentLink2URL: http://www-s.ti.com/sc/ds/sn74hc74.pdf
footprint DB014 (SSOP, Plastic; 14 Leads; Body Width 5.3 mm; Pitch 0.65 mm)
3D model DB014 (SSOP, Plastic; 14 Leads; Body Width 5.3 mm; Pitch 0.65 mm)
signal-integrity model SN74HC74DBLE
pins on every part: 7 GND (power) hidden to GND, 14 VCC (power) hidden to VCC
part A pins: 1 CLR (in), 2 D (in), 3 CLK (in), 4 PR (in), 5 Q (out), 6 ~{Q} (out)
part B pins: 8 ~{Q} (out), 9 Q (out), 10 PR (in), 11 CLK (in), 12 D (in), 13 CLR (in)

## SN74HC74N
designator U?
Dual D-Type Positive-Edge-Triggered Flip-Flop with Clear and Preset; Published: 8-Jun-2000; LatestRevisionDate: 04-Mar-2005; LatestRevisionNote: Stylized 3D Model Added.; DatasheetVersion: May-1997; PackageVersion: Oct-1995; PackageReference: N014; Publisher: Altium Limited; PackageDescription: DIP; 14 Leads; Row Spacing 7.62 mm; Pitch 2.54 mm; ComponentLink1Description: Manufacturer Link; ComponentLink1URL: http://www.ti.com/; ComponentLink2Description: Datasheet; ComponentLink2URL: http://www-s.ti.com/sc/ds/sn74hc74.pdf
footprint N014 (DIP; 14 Leads; Row Spacing 7.62 mm; Pitch 2.54 mm)
3D model N014 (DIP; 14 Leads; Row Spacing 7.62 mm; Pitch 2.54 mm)
signal-integrity model SN74HC74N
pins on every part: 7 GND (power) hidden to GND, 14 VCC (power) hidden to VCC
part A pins: 1 CLR (in), 2 D (in), 3 CLK (in), 4 PR (in), 5 Q (out), 6 ~{Q} (out)
part B pins: 8 ~{Q} (out), 9 Q (out), 10 PR (in), 11 CLK (in), 12 D (in), 13 CLR (in)

## SN74HC74PWLE
designator U?
Dual D-Type Positive-Edge-Triggered Flip-Flop with Clear and Preset; ComponentAvailability: Obsolete; Published: 8-Jun-2000; LatestRevisionDate: 04-Mar-2005; LatestRevisionNote: Stylized 3D Model Added.; DatasheetVersion: May-1997; PackageVersion: Feb-1999; PackageReference: PW014; Publisher: Altium Limited; PackageDescription: Shrink Small Outline; 14 Leads; Body Width 4.4 mm; Pitch 0.65 mm; ComponentLink1Description: Manufacturer Link; ComponentLink1URL: http://www.ti.com/; ComponentLink2Description: Datasheet; ComponentLink2URL: http://www-s.ti.com/sc/ds/sn74hc74.pdf
footprint PW014 (Shrink Small Outline; 14 Leads; Body Width 4.4 mm; Pitch 0.65 mm)
3D model PW014 (Shrink Small Outline; 14 Leads; Body Width 4.4 mm; Pitch 0.65 mm)
signal-integrity model SN74HC74PWLE
pins on every part: 7 GND (power) hidden to GND, 14 VCC (power) hidden to VCC
part A pins: 1 CLR (in), 2 D (in), 3 CLK (in), 4 PR (in), 5 Q (out), 6 ~{Q} (out)
part B pins: 8 ~{Q} (out), 9 Q (out), 10 PR (in), 11 CLK (in), 12 D (in), 13 CLR (in)

## SN74HC76D
designator U?
Dual J-K Flip-Flop with Clear and Preset; Published: 8-Jun-2000; LatestRevisionDate: 13-Apr-2006; LatestRevisionNote: IPC-7351 Footprint Added.; DatasheetVersion: Sep-1987; PackageVersion: Jan-1998; PackageReference: D016; Publisher: Altium Limited; PackageDescription: 16-Pin Small Outline Integrated Circuit 1.27 mm Pitch; Code_IPC: SOIC127P600-16; ComponentLink1Description: Manufacturer Link; ComponentLink1URL: http://www.ti.com/
footprint D016_N (SOIC, 16-Leads, Body 9.9x3.9mm, Pitch 1.27mm, IPC Medium Density)
footprint D016_L (SOIC, 16-Leads, Body 9.9x3.9mm, Pitch 1.27mm, IPC High Density)
footprint D016_M (SOIC, 16-Leads, Body 9.9x3.9mm, Pitch 1.27mm, IPC Low Density)
3D model D016 (16-Pin Small Outline Integrated Circuit 1.27 mm Pitch)
signal-integrity model SN74HC76D
pins on every part: 5 VCC (power) hidden to VCC, 13 GND (power) hidden to GND
part A pins: 1 CLK (in), 2 PR (in), 3 CLR (in), 4 J (in), 14 ~{Q} (out), 15 Q (out), 16 K (in)
part B pins: 6 CLK (in), 7 PR (in), 8 CLR (in), 9 J (in), 10 ~{Q} (out), 11 Q (out), 12 K (in)

## SN74HC76N
designator U?
Dual J-K Flip-Flop with Clear and Preset; ComponentAvailability: Obsolete; Published: 8-Jun-2000; LatestRevisionDate: 04-Mar-2005; LatestRevisionNote: Stylized 3D Model Added.; DatasheetVersion: Sep-1987; PackageVersion: Oct-1995; PackageReference: N016D; Publisher: Altium Limited; PackageDescription: DIP; 16 Leads; Row Spacing 7.62 mm; Pitch 2.54 mm; Code_JEDEC: MS-001-BB; ComponentLink1Description: Manufacturer Link; ComponentLink1URL: http://www.ti.com/; ComponentLink2Description: Discontinuation Notice; ComponentLink2URL: http://focus.ti.com/docs/prod/folders/print/sn74hc76.html
footprint N016D (DIP; 16 Leads; Row Spacing 7.62 mm; Pitch 2.54 mm)
3D model N016 (DIP; 16 Leads; Row Spacing 7.62 mm; Pitch 2.54 mm)
signal-integrity model SN74HC76N
pins on every part: 5 VCC (power) hidden to VCC, 13 GND (power) hidden to GND
part A pins: 1 CLK (in), 2 PR (in), 3 CLR (in), 4 J (in), 14 ~{Q} (out), 15 Q (out), 16 K (in)
part B pins: 6 CLK (in), 7 PR (in), 8 CLR (in), 9 J (in), 10 ~{Q} (out), 11 Q (out), 12 K (in)

## SN74HC78D
designator U?
Dual J-K Negative-Edge-Triggered Flip-Flop with Preset, Common Clear and Common Clock; ComponentAvailability: Obsolete; Published: 8-Jun-2000; LatestRevisionDate: 13-Apr-2006; LatestRevisionNote: IPC-7351 Footprint Added.; DatasheetVersion: Sep-1987; PackageVersion: Jan-1998; PackageReference: D014; Publisher: Altium Limited; PackageDescription: 14-Pin Small Outline Integrated Circuit 1.27 mm Pitch; Code_IPC: SOIC127P600-14; ComponentLink1Description: Manufacturer Link; ComponentLink1URL: http://www.ti.com/; ComponentLink2Description: Discontinuation Notice; ComponentLink2URL: http://focus.ti.com/docs/prod/folders/print/sn74hc78.html
footprint D014_N (SOIC, 14-Leads, Body 8.7x3.9mm, Pitch 1.27mm, IPC Medium Density)
footprint D014_L (SOIC, 14-Leads, Body 8.7x3.9mm, Pitch 1.27mm, IPC High Density)
footprint D014_M (SOIC, 14-Leads, Body 8.7x3.9mm, Pitch 1.27mm, IPC Low Density)
3D model D014 (14-Pin Small Outline Integrated Circuit 1.27 mm Pitch)
signal-integrity model SN74HC78D
pins: 1 CLK (in), 2 ~{PRE}1 (in), 3 J1 (in), 4 VCC (power), 5 ~{CLR} (in), 6 ~{PRE}2 (in), 7 K2 (in), 8 Q2 (out), 9 ~{Q}2 (out), 10 J2 (in), 11 GND (power), 12 ~{Q}1 (out), 13 Q1 (out), 14 K1 (in)

## SN74HC78N
designator U?
Dual J-K Negative-Edge-Triggered Flip-Flop with Preset, Common Clear and Common Clock; ComponentAvailability: Obsolete; Published: 8-Jun-2000; LatestRevisionDate: 04-Mar-2005; LatestRevisionNote: Stylized 3D Model Added.; DatasheetVersion: Sep-1987; PackageVersion: Oct-1995; PackageReference: N014D; Publisher: Altium Limited; PackageDescription: DIP; 14 Leads; Row Spacing 7.62 mm; Pitch 2.54 mm; ComponentLink1Description: Manufacturer Link; ComponentLink1URL: http://www.ti.com/; ComponentLink2Description: Discontinuation Notice; ComponentLink2URL: http://focus.ti.com/docs/prod/folders/print/sn74hc78.html
footprint N014D (DIP; 14 Leads; Row Spacing 7.62 mm; Pitch 2.54 mm)
3D model N014 (DIP; 14 Leads; Row Spacing 7.62 mm; Pitch 2.54 mm)
signal-integrity model SN74HC78N
pins: 1 CLK (in), 2 ~{PRE}1 (in), 3 J1 (in), 4 VCC (power), 5 ~{CLR} (in), 6 ~{PRE}2 (in), 7 K2 (in), 8 Q2 (out), 9 ~{Q}2 (out), 10 J2 (in), 11 GND (power), 12 ~{Q}1 (out), 13 Q1 (out), 14 K1 (in)

## SN74HC107D
designator U?
Dual J-K Negative-Edge-Triggered Flip-Flop with Clear; Published: 8-Jun-2000; LatestRevisionDate: 13-Apr-2006; LatestRevisionNote: IPC-7351 Footprint Added.; DatasheetVersion: Jun-1989; PackageVersion: Jan-1998; PackageReference: D014; Publisher: Altium Limited; PackageDescription: 14-Pin Small Outline Integrated Circuit 1.27 mm Pitch; Code_IPC: SOIC127P600-14; ComponentLink1Description: Manufacturer Link; ComponentLink1URL: http://www.ti.com/
footprint D014_N (SOIC, 14-Leads, Body 8.7x3.9mm, Pitch 1.27mm, IPC Medium Density)
footprint D014_L (SOIC, 14-Leads, Body 8.7x3.9mm, Pitch 1.27mm, IPC High Density)
footprint D014_M (SOIC, 14-Leads, Body 8.7x3.9mm, Pitch 1.27mm, IPC Low Density)
3D model D014 (14-Pin Small Outline Integrated Circuit 1.27 mm Pitch)
signal-integrity model SN74HC107D
pins on every part: 7 GND (power) hidden to GND, 14 VCC (power) hidden to VCC
part A pins: 1 J (in), 2 ~{Q} (out), 3 Q (out), 4 K (in), 12 CLK (in), 13 CLR (in)
part B pins: 5 Q (out), 6 ~{Q} (out), 8 J (in), 9 CLK (in), 10 CLR (in), 11 K (in)

## SN74HC107N
designator U?
Dual J-K Negative-Edge-Triggered Flip-Flop with Clear; Published: 8-Jun-2000; LatestRevisionDate: 04-Mar-2005; LatestRevisionNote: Stylized 3D Model Added.; DatasheetVersion: Jun-1989; PackageVersion: Oct-1995; PackageReference: N014D; Publisher: Altium Limited; PackageDescription: DIP; 14 Leads; Row Spacing 7.62 mm; Pitch 2.54 mm; ComponentLink1Description: Manufacturer Link; ComponentLink1URL: http://www.ti.com/
footprint N014D (DIP; 14 Leads; Row Spacing 7.62 mm; Pitch 2.54 mm)
3D model N014 (DIP; 14 Leads; Row Spacing 7.62 mm; Pitch 2.54 mm)
signal-integrity model SN74HC107N
pins on every part: 7 GND (power) hidden to GND, 14 VCC (power) hidden to VCC
part A pins: 1 J (in), 2 ~{Q} (out), 3 Q (out), 4 K (in), 12 CLK (in), 13 CLR (in)
part B pins: 5 Q (out), 6 ~{Q} (out), 8 J (in), 9 CLK (in), 10 CLR (in), 11 K (in)

## SN74HC109D
designator U?
Dual J-K Positive-Edge-Triggered Flip-Flop with Clear and Preset; Published: 8-Jun-2000; LatestRevisionDate: 13-Apr-2006; LatestRevisionNote: IPC-7351 Footprint Added.; DatasheetVersion: Jun-1989; PackageVersion: Jan-1998; PackageReference: D016; Publisher: Altium Limited; PackageDescription: 16-Pin Small Outline Integrated Circuit 1.27 mm Pitch; Code_IPC: SOIC127P600-16; ComponentLink1Description: Manufacturer Link; ComponentLink1URL: http://www.ti.com/; ComponentLink2Description: Datasheet; ComponentLink2URL: http://www-s.ti.com/sc/ds/sn74hc109.pdf
footprint D016_N (SOIC, 16-Leads, Body 9.9x3.9mm, Pitch 1.27mm, IPC Medium Density)
footprint D016_L (SOIC, 16-Leads, Body 9.9x3.9mm, Pitch 1.27mm, IPC High Density)
footprint D016_M (SOIC, 16-Leads, Body 9.9x3.9mm, Pitch 1.27mm, IPC Low Density)
3D model D016 (16-Pin Small Outline Integrated Circuit 1.27 mm Pitch)
signal-integrity model SN74HC109D
pins on every part: 8 GND (power) hidden to GND, 16 VCC (power) hidden to VCC
part A pins: 1 CLR (in), 2 J (in), 3 ~{K} (in), 4 CLK (in), 5 PR (in), 6 Q (out), 7 ~{Q} (out)
part B pins: 9 ~{Q} (out), 10 Q (out), 11 PR (in), 12 CLK (in), 13 ~{K} (in), 14 J (in), 15 CLR (in)

## SN74HC109N
designator U?
Dual J-K Positive-Edge-Triggered Flip-Flop with Clear and Preset; Published: 8-Jun-2000; LatestRevisionDate: 04-Mar-2005; LatestRevisionNote: Stylized 3D Model Added.; DatasheetVersion: Jun-1989; PackageVersion: Oct-1995; PackageReference: N016; Publisher: Altium Limited; PackageDescription: DIP; 16 Leads; Row Spacing 7.62 mm; Pitch 2.54 mm; Code_JEDEC: MS-001-BB; ComponentLink1Description: Manufacturer Link; ComponentLink1URL: http://www.ti.com/; ComponentLink2Description: Datasheet; ComponentLink2URL: http://www-s.ti.com/sc/ds/sn74hc109.pdf
footprint N016 (DIP; 16 Leads; Row Spacing 7.62 mm; Pitch 2.54 mm)
3D model N016 (DIP; 16 Leads; Row Spacing 7.62 mm; Pitch 2.54 mm)
signal-integrity model SN74HC109N
pins on every part: 8 GND (power) hidden to GND, 16 VCC (power) hidden to VCC
part A pins: 1 CLR (in), 2 J (in), 3 ~{K} (in), 4 CLK (in), 5 PR (in), 6 Q (out), 7 ~{Q} (out)
part B pins: 9 ~{Q} (out), 10 Q (out), 11 PR (in), 12 CLK (in), 13 ~{K} (in), 14 J (in), 15 CLR (in)

## SN74HC112D
designator U?
Dual J-K Negative-Edge-Triggered Flip-Flop with Clear and Preset; Published: 8-Jun-2000; LatestRevisionDate: 13-Apr-2006; LatestRevisionNote: IPC-7351 Footprint Added.; DatasheetVersion: Apr-1999; PackageVersion: Jan-1998; PackageReference: D016; Publisher: Altium Limited; PackageDescription: 16-Pin Small Outline Integrated Circuit 1.27 mm Pitch; Code_IPC: SOIC127P600-16; ComponentLink1Description: Manufacturer Link; ComponentLink1URL: http://www.ti.com/; ComponentLink2Description: Datasheet; ComponentLink2URL: http://www-s.ti.com/sc/ds/sn74hc112.pdf
footprint D016_N (SOIC, 16-Leads, Body 9.9x3.9mm, Pitch 1.27mm, IPC Medium Density)
footprint D016_L (SOIC, 16-Leads, Body 9.9x3.9mm, Pitch 1.27mm, IPC High Density)
footprint D016_M (SOIC, 16-Leads, Body 9.9x3.9mm, Pitch 1.27mm, IPC Low Density)
3D model D016 (16-Pin Small Outline Integrated Circuit 1.27 mm Pitch)
signal-integrity model SN74HC112D
pins on every part: 8 GND (power) hidden to GND, 16 VCC (power) hidden to VCC
part A pins: 1 CLK (in), 2 K (in), 3 J (in), 4 PR (in), 5 Q (out), 6 ~{Q} (out), 15 CLR (in)
part B pins: 7 ~{Q} (out), 9 Q (out), 10 PR (in), 11 J (in), 12 K (in), 13 CLK (in), 14 CLR (in)

## SN74HC112N
designator U?
Dual J-K Negative-Edge-Triggered Flip-Flop with Clear and Preset; Published: 8-Jun-2000; LatestRevisionDate: 04-Mar-2005; LatestRevisionNote: Stylized 3D Model Added.; DatasheetVersion: Apr-1999; PackageVersion: Oct-1995; PackageReference: N016; Publisher: Altium Limited; PackageDescription: DIP; 16 Leads; Row Spacing 7.62 mm; Pitch 2.54 mm; Code_JEDEC: MS-001-BB; ComponentLink1Description: Manufacturer Link; ComponentLink1URL: http://www.ti.com/; ComponentLink2Description: Datasheet; ComponentLink2URL: http://www-s.ti.com/sc/ds/sn74hc112.pdf
footprint N016 (DIP; 16 Leads; Row Spacing 7.62 mm; Pitch 2.54 mm)
3D model N016 (DIP; 16 Leads; Row Spacing 7.62 mm; Pitch 2.54 mm)
signal-integrity model SN74HC112N
pins on every part: 8 GND (power) hidden to GND, 16 VCC (power) hidden to VCC
part A pins: 1 CLK (in), 2 K (in), 3 J (in), 4 PR (in), 5 Q (out), 6 ~{Q} (out), 15 CLR (in)
part B pins: 7 ~{Q} (out), 9 Q (out), 10 PR (in), 11 J (in), 12 K (in), 13 CLK (in), 14 CLR (in)

## SN74HC113D
designator U?
Dual J-K Negative-Edge-Triggered Flip-Flop with Preset; Published: 8-Jun-2000; LatestRevisionDate: 13-Apr-2006; LatestRevisionNote: IPC-7351 Footprint Added.; DatasheetVersion: Sep-1987; PackageVersion: Jan-1998; PackageReference: D014; Publisher: Altium Limited; PackageDescription: 14-Pin Small Outline Integrated Circuit 1.27 mm Pitch; Code_IPC: SOIC127P600-14; ComponentLink1Description: Manufacturer Link; ComponentLink1URL: http://www.ti.com/
footprint D014_N (SOIC, 14-Leads, Body 8.7x3.9mm, Pitch 1.27mm, IPC Medium Density)
footprint D014_L (SOIC, 14-Leads, Body 8.7x3.9mm, Pitch 1.27mm, IPC High Density)
footprint D014_M (SOIC, 14-Leads, Body 8.7x3.9mm, Pitch 1.27mm, IPC Low Density)
3D model D014 (14-Pin Small Outline Integrated Circuit 1.27 mm Pitch)
signal-integrity model SN74HC113D
pins on every part: 7 GND (power) hidden to GND, 14 VCC (power) hidden to VCC
part A pins: 1 CLK (in), 2 K (in), 3 J (in), 4 PR (in), 5 Q (out), 6 ~{Q} (out)
part B pins: 8 ~{Q} (out), 9 Q (out), 10 PR (in), 11 J (in), 12 K (in), 13 CLK (in)

## SN74HC113N
designator U?
Dual J-K Negative-Edge-Triggered Flip-Flop with Preset; Published: 8-Jun-2000; LatestRevisionDate: 04-Mar-2005; LatestRevisionNote: Stylized 3D Model Added.; DatasheetVersion: Sep-1987; PackageVersion: Oct-1995; PackageReference: N014D; Publisher: Altium Limited; PackageDescription: DIP; 14 Leads; Row Spacing 7.62 mm; Pitch 2.54 mm; ComponentLink1Description: Manufacturer Link; ComponentLink1URL: http://www.ti.com/
footprint N014D (DIP; 14 Leads; Row Spacing 7.62 mm; Pitch 2.54 mm)
3D model N014 (DIP; 14 Leads; Row Spacing 7.62 mm; Pitch 2.54 mm)
signal-integrity model SN74HC113N
pins on every part: 7 GND (power) hidden to GND, 14 VCC (power) hidden to VCC
part A pins: 1 CLK (in), 2 K (in), 3 J (in), 4 PR (in), 5 Q (out), 6 ~{Q} (out)
part B pins: 8 ~{Q} (out), 9 Q (out), 10 PR (in), 11 J (in), 12 K (in), 13 CLK (in)

## SN74HC114D
designator U?
Dual J-K Negative-Edge-Triggered Flip-Flop with Preset, Common Clear and Common Clock; Published: 8-Jun-2000; LatestRevisionDate: 13-Apr-2006; LatestRevisionNote: IPC-7351 Footprint Added.; DatasheetVersion: Sep-1987; PackageVersion: Jan-1998; PackageReference: D014; Publisher: Altium Limited; PackageDescription: 14-Pin Small Outline Integrated Circuit 1.27 mm Pitch; Code_IPC: SOIC127P600-14; ComponentLink1Description: Manufacturer Link; ComponentLink1URL: http://www.ti.com/
footprint D014_N (SOIC, 14-Leads, Body 8.7x3.9mm, Pitch 1.27mm, IPC Medium Density)
footprint D014_L (SOIC, 14-Leads, Body 8.7x3.9mm, Pitch 1.27mm, IPC High Density)
footprint D014_M (SOIC, 14-Leads, Body 8.7x3.9mm, Pitch 1.27mm, IPC Low Density)
3D model D014 (14-Pin Small Outline Integrated Circuit 1.27 mm Pitch)
signal-integrity model SN74HC114D
pins: 1 ~{CLR} (in), 2 K1 (in), 3 J1 (in), 4 ~{PRE}1 (in), 5 Q1 (out), 6 ~{Q}1 (out), 7 GND (power), 8 ~{Q}2 (out), 9 Q2 (out), 10 ~{PRE}2 (in), 11 J2 (in), 12 K2 (in), 13 CLK (in), 14 VCC (power)

## SN74HC114N
designator U?
Dual J-K Negative-Edge-Triggered Flip-Flop with Preset, Common Clear and Common Clock; Published: 8-Jun-2000; LatestRevisionDate: 04-Mar-2005; LatestRevisionNote: Stylized 3D Model Added.; DatasheetVersion: Sep-1987; PackageVersion: Oct-1995; PackageReference: N014D; Publisher: Altium Limited; PackageDescription: DIP; 14 Leads; Row Spacing 7.62 mm; Pitch 2.54 mm; ComponentLink1Description: Manufacturer Link; ComponentLink1URL: http://www.ti.com/
footprint N014D (DIP; 14 Leads; Row Spacing 7.62 mm; Pitch 2.54 mm)
3D model N014 (DIP; 14 Leads; Row Spacing 7.62 mm; Pitch 2.54 mm)
signal-integrity model SN74HC114N
pins: 1 ~{CLR} (in), 2 K1 (in), 3 J1 (in), 4 ~{PRE}1 (in), 5 Q1 (out), 6 ~{Q}1 (out), 7 GND (power), 8 ~{Q}2 (out), 9 Q2 (out), 10 ~{PRE}2 (in), 11 J2 (in), 12 K2 (in), 13 CLK (in), 14 VCC (power)

## SN74HC173D
designator U?
4-Bit D-Type Register with 3-State Outputs; ComponentAvailability: Obsolete; Published: 8-Jun-2000; LatestRevisionDate: 13-Apr-2006; LatestRevisionNote: IPC-7351 Footprint Added.; DatasheetVersion: Sep-1987; PackageVersion: Jan-1998; PackageReference: D016; Publisher: Altium Limited; PackageDescription: 16-Pin Small Outline Integrated Circuit 1.27 mm Pitch; Code_IPC: SOIC127P600-16; ComponentLink1Description: Manufacturer Link; ComponentLink1URL: http://www.ti.com/; ComponentLink2Description: Discontinuation Notice; ComponentLink2URL: http://focus.ti.com/docs/prod/folders/print/sn74hc173.html
footprint D016_N (SOIC, 16-Leads, Body 9.9x3.9mm, Pitch 1.27mm, IPC Medium Density)
footprint D016_L (SOIC, 16-Leads, Body 9.9x3.9mm, Pitch 1.27mm, IPC High Density)
footprint D016_M (SOIC, 16-Leads, Body 9.9x3.9mm, Pitch 1.27mm, IPC Low Density)
3D model D016 (16-Pin Small Outline Integrated Circuit 1.27 mm Pitch)
signal-integrity model SN74HC173D
pins: 1 M (in), 2 N (in), 3 Q1 (hiz), 4 Q2 (hiz), 5 Q3 (hiz), 6 Q4 (hiz), 7 CLK (in), 8 GND (power), 9 G1 (in), 10 G2 (in), 11 D4 (in), 12 D3 (in), 13 D2 (in), 14 D1 (in), 15 CLR (in), 16 VCC (power)

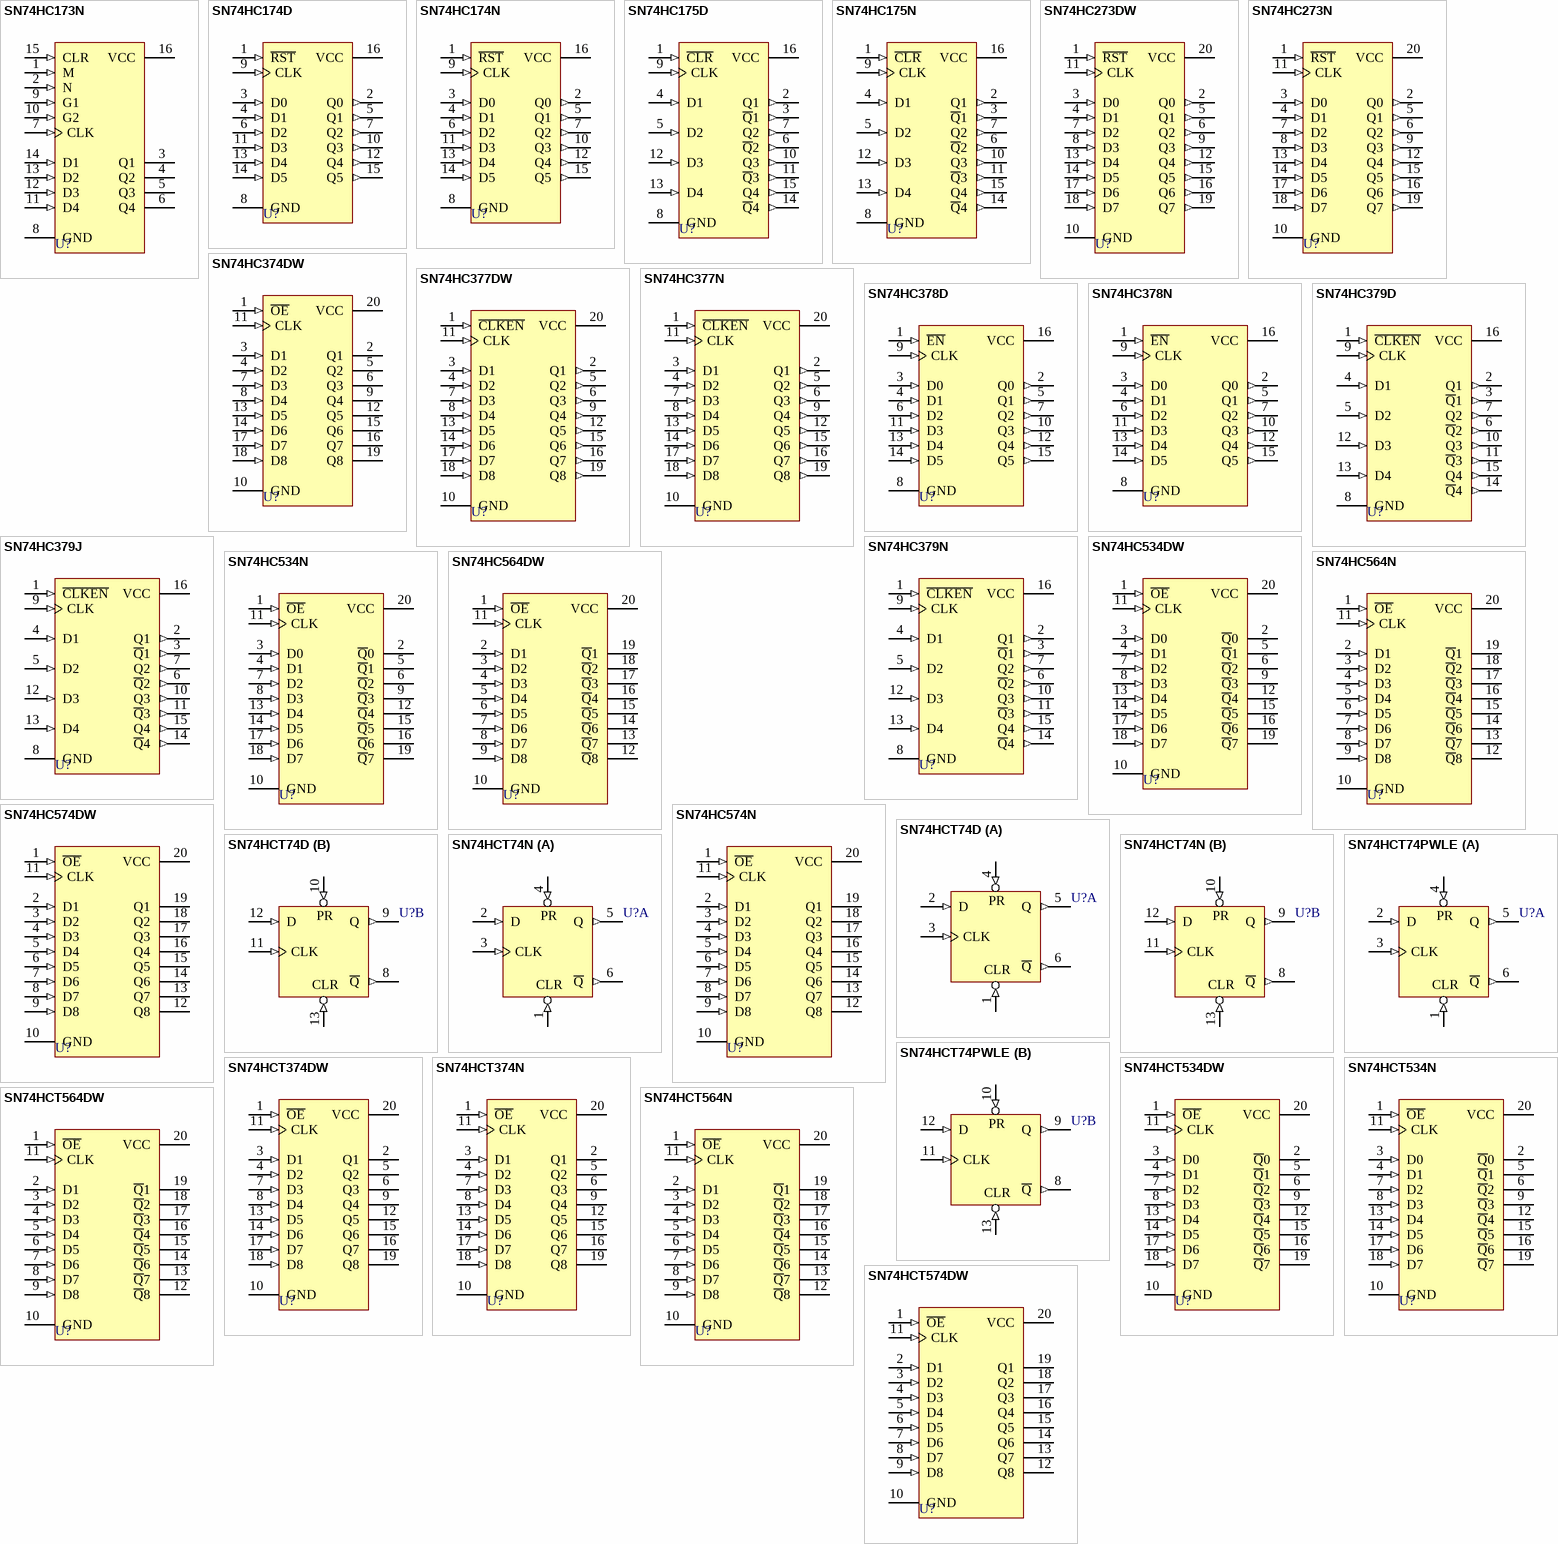
[diagram p26: symbols SN74HC173N to SN74HCT574DW]

## SN74HC173N
designator U?
4-Bit D-Type Register with 3-State Outputs; ComponentAvailability: Obsolete; Published: 8-Jun-2000; LatestRevisionDate: 04-Mar-2005; LatestRevisionNote: Stylized 3D Model Added.; DatasheetVersion: Sep-1987; PackageVersion: Oct-1995; PackageReference: N016D; Publisher: Altium Limited; PackageDescription: DIP; 16 Leads; Row Spacing 7.62 mm; Pitch 2.54 mm; Code_JEDEC: MS-001-BB; ComponentLink1Description: Manufacturer Link; ComponentLink1URL: http://www.ti.com/; ComponentLink2Description: Discontinuation Notice; ComponentLink2URL: http://focus.ti.com/docs/prod/folders/print/sn74hc173.html
footprint N016D (DIP; 16 Leads; Row Spacing 7.62 mm; Pitch 2.54 mm)
3D model N016 (DIP; 16 Leads; Row Spacing 7.62 mm; Pitch 2.54 mm)
signal-integrity model SN74HC173N
pins: 1 M (in), 2 N (in), 3 Q1 (hiz), 4 Q2 (hiz), 5 Q3 (hiz), 6 Q4 (hiz), 7 CLK (in), 8 GND (power), 9 G1 (in), 10 G2 (in), 11 D4 (in), 12 D3 (in), 13 D2 (in), 14 D1 (in), 15 CLR (in), 16 VCC (power)

## SN74HC174D
designator U?
Hex D-Type Flip-Flop with Clear; Published: 8-Jun-2000; LatestRevisionDate: 13-Apr-2006; LatestRevisionNote: IPC-7351 Footprint Added.; DatasheetVersion: May-1997; PackageVersion: Jan-1998; PackageReference: D016; Publisher: Altium Limited; PackageDescription: 16-Pin Small Outline Integrated Circuit 1.27 mm Pitch; Code_IPC: SOIC127P600-16; ComponentLink1Description: Manufacturer Link; ComponentLink1URL: http://www.ti.com/; ComponentLink2Description: Datasheet; ComponentLink2URL: http://www-s.ti.com/sc/ds/sn74hc174.pdf
footprint D016_N (SOIC, 16-Leads, Body 9.9x3.9mm, Pitch 1.27mm, IPC Medium Density)
footprint D016_L (SOIC, 16-Leads, Body 9.9x3.9mm, Pitch 1.27mm, IPC High Density)
footprint D016_M (SOIC, 16-Leads, Body 9.9x3.9mm, Pitch 1.27mm, IPC Low Density)
3D model D016 (16-Pin Small Outline Integrated Circuit 1.27 mm Pitch)
signal-integrity model SN74HC174D
pins: 1 ~{RST} (in), 2 Q0 (out), 3 D0 (in), 4 D1 (in), 5 Q1 (out), 6 D2 (in), 7 Q2 (out), 8 GND (power), 9 CLK (in), 10 Q3 (out), 11 D3 (in), 12 Q4 (out), 13 D4 (in), 14 D5 (in), 15 Q5 (out), 16 VCC (power)